# Altium schematic symbol library PadPlase.SchLib: 1 symbol
Pins are listed as number, name and electrical type; pins without a type are passive.

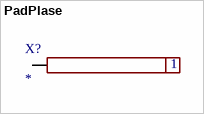
[diagram p0: symbol PadPlase]

## PadPlase
designator X?
footprint Pad_1x5
pins: 1